# EAGLE library part 52610-0671 (library molex)
SOCKET FFC/FPC
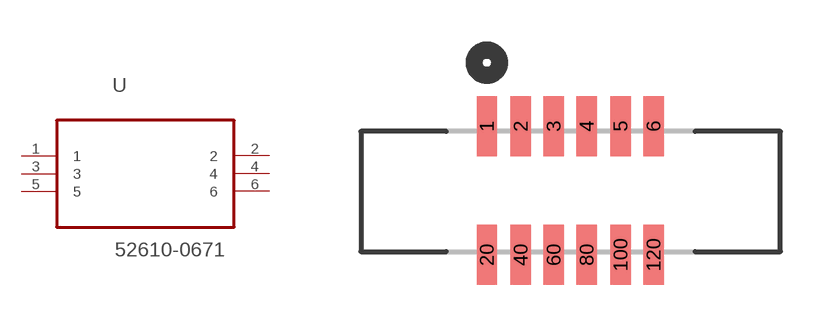
[diagram p16: symbol with the pads of MOLEX_52610-0671; footprint MOLEX_52610-0671]

Designator prefix U

## 52610-0671 (MPN: 52610-0671; OC_FARNELL: 1079958; OC_NEWARK: 07P8569; PACKAGE: SOCKET FFC/FPC, 06 way; SUPPLIER: Molex)  [MOLEX_52610-0671]
1  1  pas
2  2  pas
3  3  pas
4  4  pas
5  5  pas
6  6  pas

## Footprint MOLEX_52610-0671 (pad centres in mm)
smd 0.61 x 1.803: 1 -5.004,3.861; 2 -3.988,3.861; 3 -2.997,3.861; 4 -2.007,3.861; 5 -0.991,3.861; 6 0,3.861; 20 -5.004,0; 40 -3.988,0; 60 -2.997,0; 80 -2.007,0; 100 -0.991,0; 120 0,0